# Altium footprint library STR-W60.PcbLib: 1 footprints
Each footprint in its own frame and in the unit in brackets; x right, y up, seen from the top. Pads: shape width x height; smd on the part's side, far side on the other; paste and mask are expansions set on the pad; w line width, h text height; cw(c..) or ccw(c..) is an arc to the next point about the centre after c.
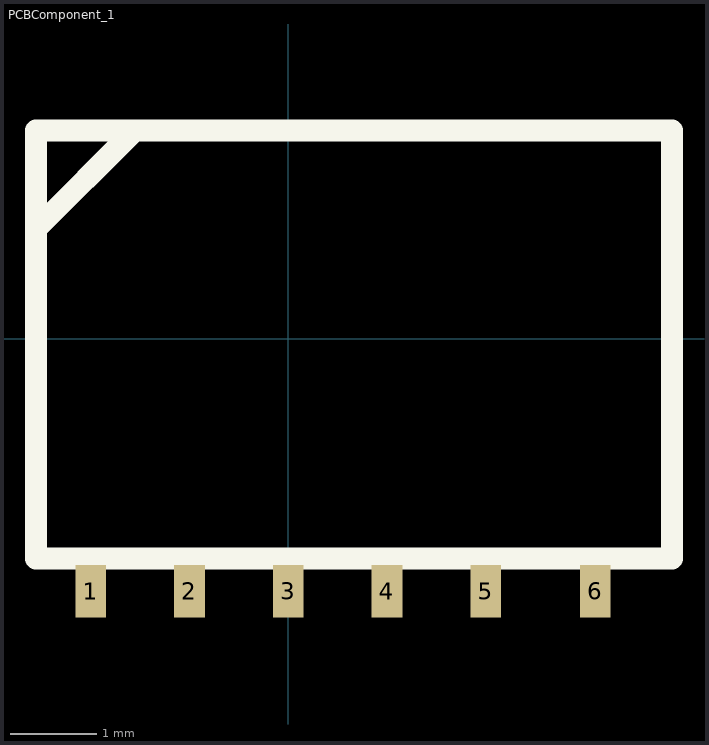
[diagram p0: the footprint, top view; thin cyan lines are the x and y axes]

## PCBComponent_1 [mil]
pads (6):
  rect 14x24 smd: 1(-90,-115) 2(-45,-115) 3(0,-115) 4(45,-115) 5(90,-115) 6(140,-115)
Top Overlay:
  lines w10: -115,50 -115,95 -70,95 ; -115,50 -115,-100 175,-100 175,95 -70,95 ; -115,50 -70,95